# Altium footprint library 2226051_이강민_STM32H743.PcbLib: 20 footprints (part 1 of 2)
Each footprint in its own frame and in the unit in brackets; x right, y up, seen from the top. Pads: shape width x height; smd on the part's side, far side on the other; paste and mask are expansions set on the pad; w line width, h text height; cw(c..) or ccw(c..) is an arc to the next point about the centre after c.
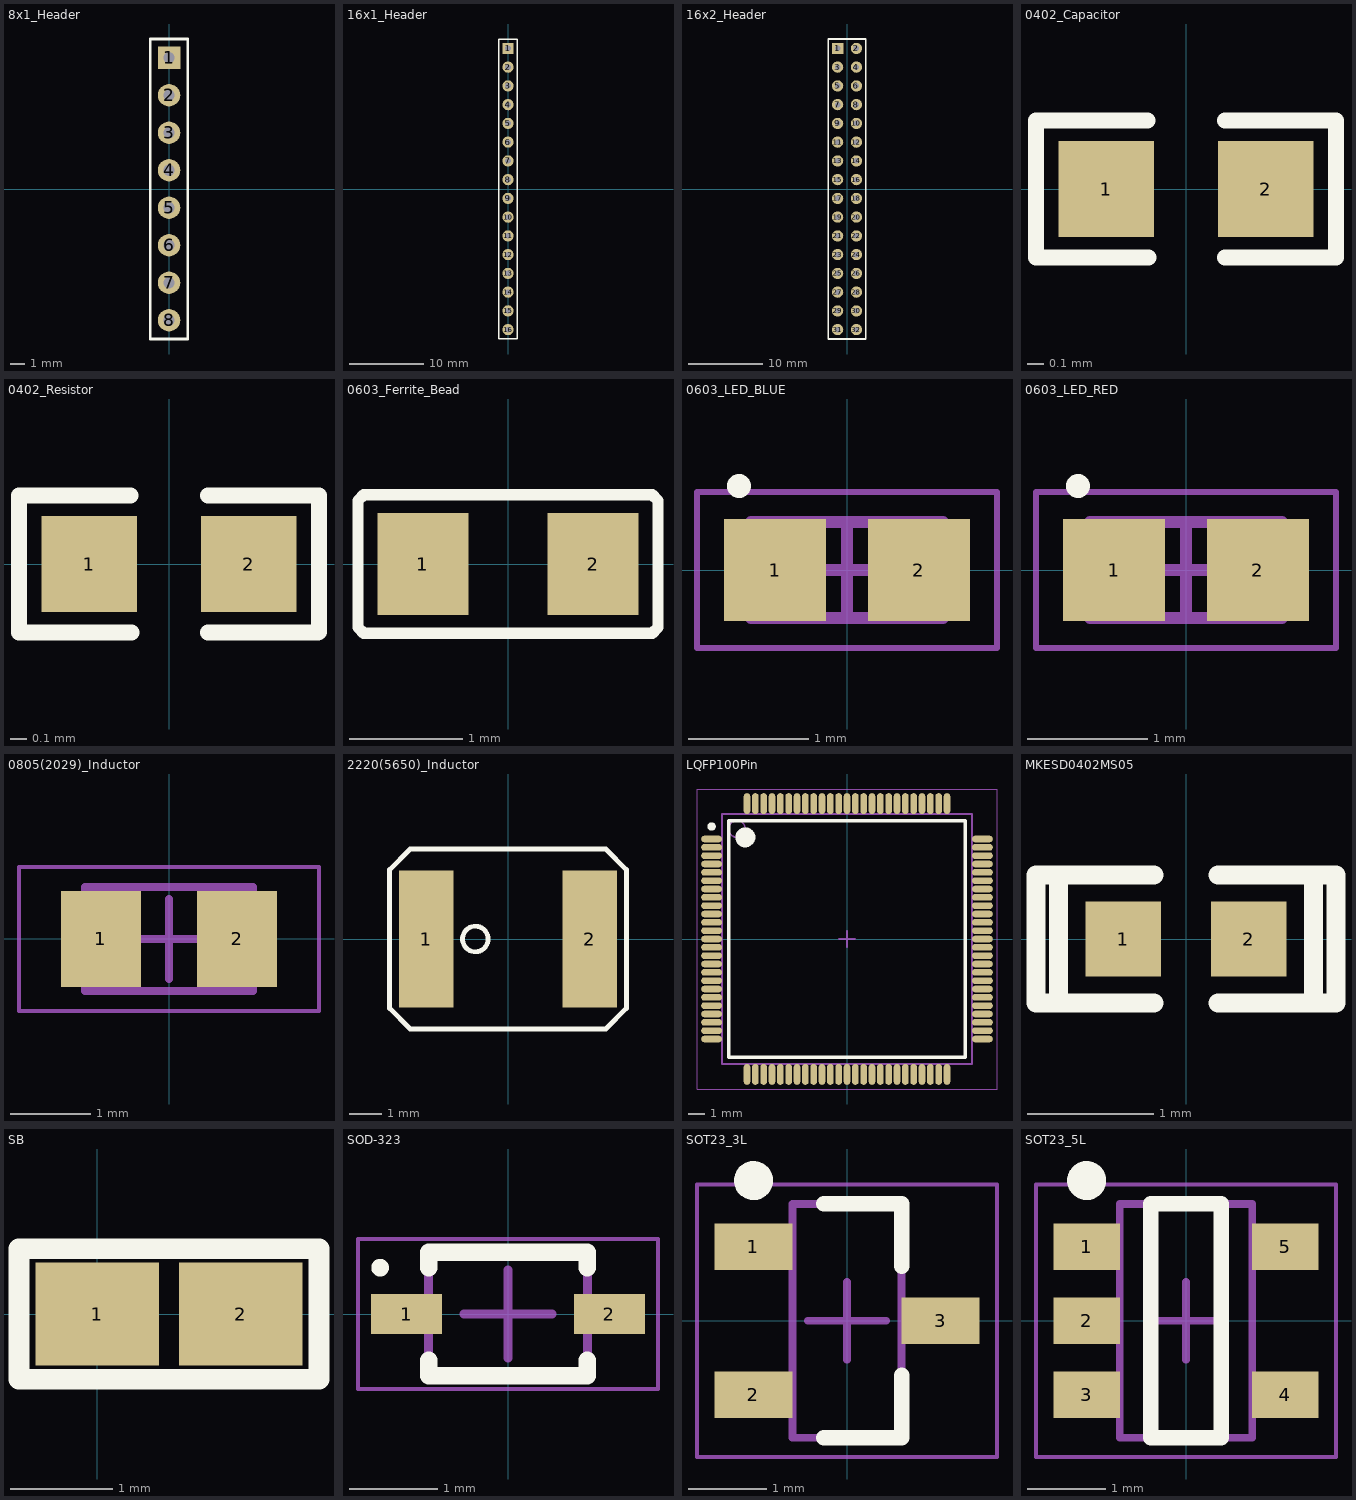
[diagram p0: the footprints below, top view; thin cyan lines are the x and y axes]

## 8x1_Header [mil]
pads (8):
  rect 60x60 hole 30 square: 1(0,350)
  round 60 hole 30 square: 2(0,250) 3(0,150) 4(0,50) 5(0,-50) 6(0,-150) 7(0,-250) 8(0,-350)
Top Overlay:
  lines w7.87: -50,-400 50,-400 50,325 50,400 -50,400 -50,-400
3D body "1X8-2.54mm-pin-header.STEP": height 102.36, standoff -351.97, extent -50,-400 50,400

## 16x1_Header [mil]
pads (16):
  rect 60x60 hole 30 square: 1(0,750)
  round 60 hole 30 square: 2(0,650) 3(0,550) 4(0,450) 5(0,350) 6(0,250) 7(0,150) 8(0,50) 9(0,-50) 10(0,-150) 11(0,-250) 12(0,-350) 13(0,-450) 14(0,-550) 15(0,-650) 16(0,-750)
Top Overlay:
  lines w7.87: -50,-800 -50,800 50,800 50,725 50,-800 -50,-800
3D body "1X16-2.54mm-pin-header.STEP": height 102.36, standoff -351.97, extent -50,-800 50,800

## 16x2_Header [mil]
pads (32):
  rect 60x60 hole 30 square: 1(-50,750)
  round 60 hole 30 square: 2(50,750) 3(-50,650) 4(50,650) 5(-50,550) 6(50,550) 7(-50,450) 8(50,450) 9(-50,350) 10(50,350) 11(-50,250) 12(50,250) 13(-50,150) 14(50,150) 15(-50,50) 16(50,50) 17(-50,-50) 18(50,-50) 19(-50,-150) 20(50,-150) 21(-50,-250) 22(50,-250) 23(-50,-350) 24(50,-350) 25(-50,-450) 26(50,-450) 27(-50,-550) 28(50,-550) 29(-50,-650) 30(50,-650) 31(-50,-750) 32(50,-750)
Top Overlay:
  lines w10: -100,-800 100,-800 100,800 -100,800 -100,-800
3D body "2X16-2.54mm-pin-header.STEP": height 102.36, standoff -346.39, extent -100,-800 100,800

## 0402_Capacitor [mm]
pads (2):
  rect 0.6x0.6 smd: 1(-0.5,0) 2(0.5,0)
Top Overlay:
  lines w0.1: -0.94,0.43 -0.94,-0.43 -0.235,-0.43 ; -0.93,0.43 -0.24,0.43 ; 0.245,-0.43 0.94,-0.43 0.94,0.43 ; 0.245,0.43 0.935,0.43
3D body "User Library-RES1005-0402_Cap.STEP": height 0.3, standoff 0, extent -0.5,-0.246 0.5,0.254

## 0402_Resistor [mm]
pads (2):
  rect 0.6x0.6 smd: 1(-0.5,0) 2(0.5,0)
Top Overlay:
  lines w0.1: -0.94,0.43 -0.94,-0.43 -0.235,-0.43 ; -0.93,0.43 -0.24,0.43 ; 0.245,-0.43 0.935,-0.43 ; 0.245,0.43 0.935,0.43 ; 0.94,-0.425 0.94,0.43
3D body "User Library-RES1005-0402.STEP": height 0.3, standoff 0, extent -0.5,-0.246 0.5,0.254

## 0603_Ferrite_Bead [mm]
pads (2):
  rect 0.8x0.9 smd: 1(-0.75,0) 2(0.75,0)
Top Overlay:
  lines w0.1: -1.321,-0.559 -1.321,0.559 -1.27,0.61 1.27,0.61 1.321,0.559 1.321,-0.559 1.27,-0.61 -1.27,-0.61 -1.321,-0.559
3D body "User Library-FB_1608-1.STEP": height 0.8, standoff 0, extent -0.8,-0.4 0.8,0.4

## 0603_LED_BLUE [mm] "Molded Diode, 2-Leads, Body 1.60x0.80mm, IPC Medium Density"
pads (2):
  rect 0.85x0.85 smd: 1(-0.6,0) 2(0.6,0)
Top Overlay:
  circle w0.1: c-0.9,0.7 r0.05
Mechanical 13:
  rectangle: -0.8,-0.4 -0.585,0.4
  lines w0.1: -0.8,-0.4 -0.8,0.4 0.8,0.4 0.8,-0.4 -0.8,-0.4
Mechanical 15:
  lines w0.05: -1.25,-0.65 -1.25,0.65 1.25,0.65 1.25,-0.65 -1.25,-0.65
  lines w0.1: -0.4,0 0.4,0 ; 0,-0.4 0,0.4
3D body "0603_LED_BLUE.STEP": height 0.6, standoff 0, extent -0.81,-0.4 0.81,0.4

## 0603_LED_RED [mm] "Molded Diode, 2-Leads, Body 1.60x0.80mm, IPC Medium Density"
height 0.4
pads (2):
  rect 0.85x0.85 smd: 1(-0.6,0) 2(0.6,0)
Top Overlay:
  circle w0.1: c-0.9,0.7 r0.05
Mechanical 13:
  rectangle: -0.8,-0.4 -0.585,0.4
  lines w0.1: -0.8,-0.4 -0.8,0.4 0.8,0.4 0.8,-0.4 -0.8,-0.4
Mechanical 15:
  lines w0.05: -1.25,-0.65 -1.25,0.65 1.25,0.65 1.25,-0.65 -1.25,-0.65
  lines w0.1: -0.4,0 0.4,0 ; 0,-0.4 0,0.4
3D body "0603_LED_RED.STEP": height 0.6, standoff 0, extent -0.81,-0.4 0.81,0.4

## 0805(2029)_Inductor [mm] "Precision Wire Wound Inductor, 2-Leads, Body 2.00x1.20mm, IPC Medium Density"
height 0.9
pads (2):
  rect 1x1.2 smd: 1(-0.85,0) 2(0.85,0)
Mechanical 13:
  lines w0.1: -1.05,-0.65 1.05,-0.65 1.05,0.65 -1.05,0.65 -1.05,-0.65
Mechanical 15:
  lines w0.05: -1.875,-0.9 1.875,-0.9 1.875,0.9 -1.875,0.9 -1.875,-0.9
  lines w0.1: -0.5,0 0.5,0 ; 0,-0.5 0,0.5
3D body "User Library-INDC2012X___.STEP": height 0.9, standoff 0, extent -1,-0.625 1,0.625

## 2220(5650)_Inductor [mm]
pads (2):
  rect 1.7x4.25 smd: 1(-2.54,0) 2(2.54,0)
Top Overlay:
  circle w0.15: c-1.016,0 r0.398
  lines w0.15: -3.683,-2.159 -3.048,-2.794 3.048,-2.794 3.683,-2.159 3.683,2.159 3.048,2.794 -3.048,2.794 -3.683,2.159 -3.683,-2.159
3D body "7255298.stp": height 1.85, standoff 0, extent -2.935,-2.6 2.935,2.6

## LQFP100Pin [mm] "TSQFP, 100-Leads, Body 15.00x15.00mm, Pitch 0.50mm, IPC Medium Density"
height 1.2
pads (100):
  oval 1.25x0.4 smd: 1(-8.125,6) 2(-8.125,5.5) 3(-8.125,5) 4(-8.125,4.5) 5(-8.125,4) 6(-8.125,3.5) 7(-8.125,3) 8(-8.125,2.5) 9(-8.125,2) 10(-8.125,1.5) 11(-8.125,1) 12(-8.125,0.5) 13(-8.125,0) 14(-8.125,-0.5) 15(-8.125,-1) 16(-8.125,-1.5) 17(-8.125,-2) 18(-8.125,-2.5) 19(-8.125,-3) 20(-8.125,-3.5) 21(-8.125,-4) 22(-8.125,-4.5) 23(-8.125,-5) 24(-8.125,-5.5) 25(-8.125,-6) 51(8.125,-6) 52(8.125,-5.5) 53(8.125,-5) 54(8.125,-4.5) 55(8.125,-4) 56(8.125,-3.5) 57(8.125,-3) 58(8.125,-2.5) 59(8.125,-2) 60(8.125,-1.5) 61(8.125,-1) 62(8.125,-0.5) 63(8.125,0) 64(8.125,0.5) 65(8.125,1) 66(8.125,1.5) 67(8.125,2) 68(8.125,2.5) 69(8.125,3) 70(8.125,3.5) 71(8.125,4) 72(8.125,4.5) 73(8.125,5) 74(8.125,5.5) 75(8.125,6)
  oval 0.4x1.25 smd: 26(-6,-8.125) 27(-5.5,-8.125) 28(-5,-8.125) 29(-4.5,-8.125) 30(-4,-8.125) 31(-3.5,-8.125) 32(-3,-8.125) 33(-2.5,-8.125) 34(-2,-8.125) 35(-1.5,-8.125) 36(-1,-8.125) 37(-0.5,-8.125) 38(0,-8.125) 39(0.5,-8.125) 40(1,-8.125) 41(1.5,-8.125) 42(2,-8.125) 43(2.5,-8.125) 44(3,-8.125) 45(3.5,-8.125) 46(4,-8.125) 47(4.5,-8.125) 48(5,-8.125) 49(5.5,-8.125) 50(6,-8.125) 76(6,8.125) 77(5.5,8.125) 78(5,8.125) 79(4.5,8.125) 80(4,8.125) 81(3.5,8.125) 82(3,8.125) 83(2.5,8.125) 84(2,8.125) 85(1.5,8.125) 86(1,8.125) 87(0.5,8.125) 88(0,8.125) 89(-0.5,8.125) 90(-1,8.125) 91(-1.5,8.125) 92(-2,8.125) 93(-2.5,8.125) 94(-3,8.125) 95(-3.5,8.125) 96(-4,8.125) 97(-4.5,8.125) 98(-5,8.125) 99(-5.5,8.125) 100(-6,8.125)
Top Overlay:
  circle w0.6: c-6.1,6.1 r0.3
  circle w0.25: c-8.125,6.75 r0.125
  lines w0.2: -7.1,-7.1 7.1,-7.1 7.1,7.1 -7.1,7.1 -7.1,-7.1
Mechanical 13:
  circle w0.1: c-6.6,6.6 r0.5
  lines w0.1: -7.5,-7.5 7.5,-7.5 7.5,7.5 -7.5,7.5 -7.5,-7.5
Mechanical 15:
  lines w0.05: -9,-9 9,-9 9,9 -9,9 -9,-9
  lines w0.1: -0.5,0 0.5,0 ; 0,-0.5 0,0.5
3D body "1653268P.stp": height 1.48, standoff 0, extent -8,-7.98 8,8.02

## MKESD0402MS05 [mm]
pads (2):
  rect 0.6x0.6 smd: 1(-0.5,0) 2(0.5,0)
Top Overlay:
  lines w0.152: -1.194,-0.508 -1.194,0.508 ; -1.168,-0.508 -0.254,-0.508 ; -1.168,0.508 -0.254,0.508 ; -1.016,-0.483 -1.016,0.505 ; 0.254,-0.508 1.168,-0.508 ; 0.254,0.508 1.168,0.508 ; 1.016,-0.505 1.016,0.483 ; 1.194,-0.508 1.194,0.508
3D body "MKESD0402MS05.STEP": height 0.36, standoff 0, extent -0.5,-0.25 0.5,0.25

## SB [mm]
pads (2):
  rect 1.2x1 smd: 1(0,0) 2(1.397,0)
Top Overlay:
  lines w0.2: -0.762,-0.635 2.159,-0.635 2.159,0.635 -0.762,0.635 -0.762,-0.635

## SOD-323 [mm] "SODFL, 2-Leads, Body 1.25x2.50mm, IPC Medium Density"
height 1
pads (2):
  rect 0.8x0.45 smd: 1(-1.15,0) 2(1.15,0)
Top Overlay:
  circle w0.1: c-1.45,0.525 r0.05
  lines w0.2: -0.9,-0.525 -0.9,-0.7 0.9,-0.7 0.9,-0.525 ; -0.9,0.525 -0.9,0.7 0.9,0.7 0.9,0.525
Mechanical 13:
  lines w0.1: -0.9,-0.675 0.9,-0.675 0.9,0.675 -0.9,0.675 -0.9,-0.675
Mechanical 15:
  lines w0.05: -1.7,-0.85 1.7,-0.85 1.7,0.85 -1.7,0.85 -1.7,-0.85
  lines w0.1: -0.5,0 0.5,0 ; 0,-0.5 0,0.5
3D body "User Library-SOD-323.STEP": height 1.1, standoff 0, extent -1.3,-0.675 1.3,0.675

## SOT23_3L [mm] "SOT23, 3-Leads, Body 2.90x2.45mm, Pitch 0.95mm, IPC Medium Density"
height 1.1
pads (3):
  rect 1x0.6 smd: 1(-1.2,0.95) 2(-1.2,-0.95) 3(1.2,0)
Top Overlay:
  circle w0.25: c-1.2,1.8 r0.125
  lines w0.2: -0.3,-1.5 0.7,-1.5 0.7,-0.7 ; -0.3,1.5 0.7,1.5 0.7,0.7
Mechanical 13:
  lines w0.1: -0.7,-1.5 0.7,-1.5 0.7,1.5 -0.7,1.5 -0.7,-1.5
Mechanical 15:
  lines w0.05: -1.925,-1.75 1.925,-1.75 1.925,1.75 -1.925,1.75 -1.925,-1.75
  lines w0.1: -0.5,0 0.5,0 ; 0,-0.5 0,0.5
3D body "bat54s.stp": height 0.98, standoff 0, extent -1.2,-1.46 1.2,1.46

## SOT23_5L [mm] "SOT23, 5-Leads, Body 2.91x2.45mm, Pitch 0.95mm, IPC Medium Density"
height 1.25
pads (5):
  rect 0.85x0.6 smd: 1(-1.275,0.95) 2(-1.275,0) 3(-1.275,-0.95) 4(1.275,-0.95) 5(1.275,0.95)
Top Overlay:
  circle w0.25: c-1.275,1.8 r0.125
  lines w0.2: -0.45,-1.5 0.45,-1.5 0.45,1.5 -0.45,1.5 -0.45,-1.5
Mechanical 13:
  lines w0.1: -0.85,-1.5 -0.85,1.5 0.85,1.5 0.85,-1.5 -0.85,-1.5
Mechanical 15:
  lines w0.05: -1.925,-1.75 -1.925,1.75 1.925,1.75 1.925,-1.75 -1.925,-1.75
  lines w0.1: -0.5,0 0.5,0 ; 0,-0.5 0,0.5
3D body "CircuitWorks-SOT-23-5.STEP": height 1.1, standoff 0, extent -1.225,-1.5 1.275,1.5